# Altium footprint library CRGCQ2512J68R.PcbLib: 3 footprints
Each footprint in its own frame and in the unit in brackets; x right, y up, seen from the top. Pads: shape width x height; smd on the part's side, far side on the other; paste and mask are expansions set on the pad; w line width, h text height; cw(c..) or ccw(c..) is an arc to the next point about the centre after c.
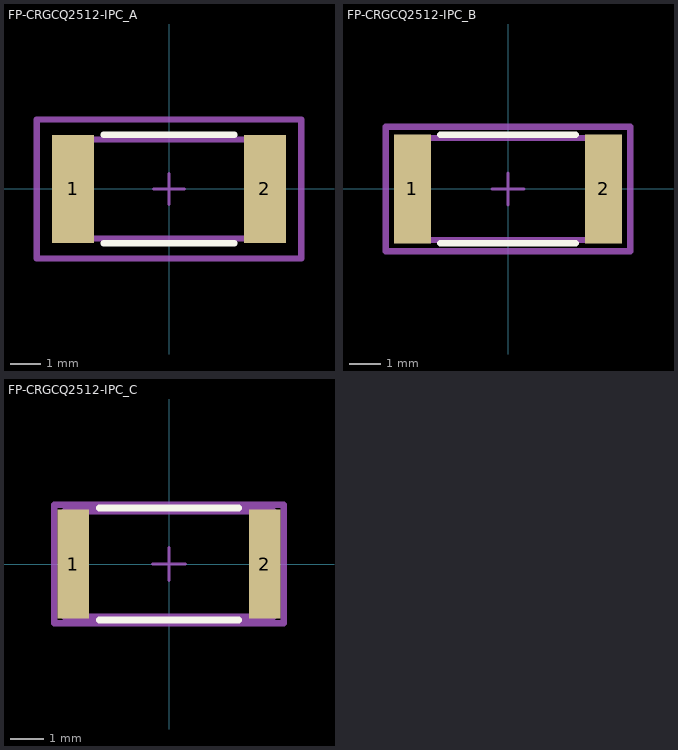
[diagram p0: the footprints below, top view; thin cyan lines are the x and y axes]

## FP-CRGCQ2512-IPC_A [mm]
pads (2):
  rect 1.358x3.506 smd paste+0 mask+0: 1(-3.102,0) 2(3.102,0)
Top Overlay:
  lines w0.2: -2.123,-1.753 2.123,-1.753 ; -2.123,1.753 2.123,1.753
Mechanical 5:
  lines w0.2: -4.281,-2.253 4.281,-2.253 4.281,2.253 -4.281,2.253 -4.281,-2.253
  text ".Designator" at 0,0.188 h1
Mechanical 13:
  lines w0.2: -3.175,-1.6 3.175,-1.6 3.175,1.6 -3.175,1.6 -3.175,-1.6
Mechanical 15:
  lines w0.2: -4.281,-2.253 4.281,-2.253 4.281,2.253 -4.281,2.253 -4.281,-2.253
Mechanical 16:
  lines w0.1: -0.5,0 0.5,0 ; 0,-0.5 0,0.5
3D body "Res_TE_Connectivity_CRGCQ2512J10K_eec.STEP": height 0.25, standoff 0, extent -4.281,-2.253 4.281,2.253

## FP-CRGCQ2512-IPC_B [mm]
pads (2):
  rect 1.158x3.406 smd paste+0 mask+0: 1(-3.002,0) 2(3.002,0)
Top Overlay:
  lines w0.2: -2.123,-1.703 2.123,-1.703 ; -2.123,1.703 2.123,1.703
Mechanical 5:
  lines w0.2: -3.831,-1.953 3.831,-1.953 3.831,1.953 -3.831,1.953 -3.831,-1.953
  text ".Designator" at 0,0.188 h1
Mechanical 13:
  lines w0.2: -3.175,-1.6 3.175,-1.6 3.175,1.6 -3.175,1.6 -3.175,-1.6
Mechanical 15:
  lines w0.2: -3.831,-1.953 3.831,-1.953 3.831,1.953 -3.831,1.953 -3.831,-1.953
Mechanical 16:
  lines w0.1: -0.5,0 0.5,0 ; 0,-0.5 0,0.5
3D body "Res_TE_Connectivity_CRGCQ2512J10K_eec.STEP": height 0.25, standoff 0, extent -3.831,-1.953 3.831,1.953

## FP-CRGCQ2512-IPC_C [mm]
pads (2):
  rect 0.958x3.306 smd paste+0 mask+0: 1(-2.902,0) 2(2.902,0)
Top Overlay:
  lines w0.2: -2.123,-1.7 2.123,-1.7 ; -2.123,1.7 2.123,1.7
Mechanical 5:
  lines w0.2: -3.481,-1.8 3.481,-1.8 3.481,1.8 -3.481,1.8 -3.481,-1.8
  text ".Designator" at 0,0.188 h1
Mechanical 13:
  lines w0.2: -3.175,-1.6 3.175,-1.6 3.175,1.6 -3.175,1.6 -3.175,-1.6
Mechanical 15:
  lines w0.2: -3.481,-1.8 3.481,-1.8 3.481,1.8 -3.481,1.8 -3.481,-1.8
Mechanical 16:
  lines w0.1: -0.5,0 0.5,0 ; 0,-0.5 0,0.5
3D body "Res_TE_Connectivity_CRGCQ2512J10K_eec.STEP": height 0.25, standoff 0, extent -3.481,-1.8 3.481,1.8